# Altium footprint library Keystone_2468.PcbLib: 1 footprints
Each footprint in its own frame and in the unit in brackets; x right, y up, seen from the top. Pads: shape width x height; smd on the part's side, far side on the other; paste and mask are expansions set on the pad; w line width, h text height; cw(c..) or ccw(c..) is an arc to the next point about the centre after c.
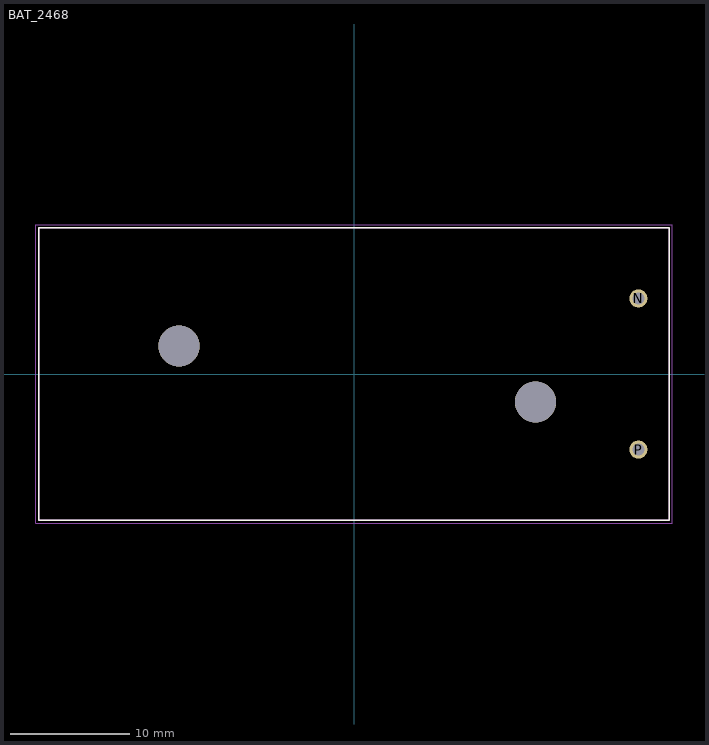
[diagram p0: the footprint, top view; thin cyan lines are the x and y axes]

## BAT_2468 [mm]
height 13.25
pads (4):
  round 1.53 hole 1.02: N(23.9,6.35) P(23.9,-6.35)
  round 3.45 hole 3.45 unplated: ""(-14.71,2.35) ""(15.26,-2.35)
Top Overlay:
  lines w0.127: -26.49,-12.295 26.49,-12.295 26.49,12.295 -26.49,12.295 -26.49,-12.295
Assembly Top:
  lines w0.127: -26.49,-12.295 -26.49,12.295 26.49,12.295 26.49,-12.295 -26.49,-12.295
Courtyard Top:
  lines w0.05: -26.74,-12.545 -26.74,12.545 26.74,12.545 26.74,-12.545 -26.74,-12.545
3D body "2468--3DModel-STEP-630548.STEP": height 13.01, standoff -13.61, extent -26.499,-12.293 26.485,12.294